# EAGLE library part TPS51601A (library 0_my_parts)
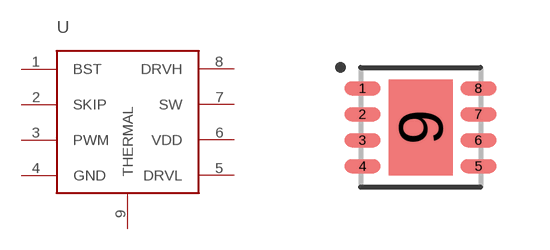
[diagram p1: symbol with the pads of DRB(S-PVSON-N8); footprint DRB(S-PVSON-N8)]

Designator prefix U

## TPS51601A  [DRB(S-PVSON-N8)]
1  BST
2  SKIP
3  PWM
4  GND
5  DRVL
6  VDD
7  SW
8  DRVH
9  THERMAL

## Footprint DRB(S-PVSON-N8) (pad centres in mm)
smd 0.9 x 0.35: 1 -1.45,0.975; 2 -1.45,0.325; 3 -1.45,-0.325; 4 -1.45,-0.975; 5 1.45,-0.975; 6 1.45,-0.325; 7 1.45,0.325; 8 1.45,0.975
smd 1.6 x 2.4: 9 0,0